# Altium footprint library PCB - CAPACITOR - ALUMINIUM - CAP TH ALUM ELEC D8.00mm S3.50mm H13.50mm.PCBLIB: 1 footprints
Each footprint in its own frame and in the unit in brackets; x right, y up, seen from the top. Pads: shape width x height; smd on the part's side, far side on the other; paste and mask are expansions set on the pad; w line width, h text height; cw(c..) or ccw(c..) is an arc to the next point about the centre after c.
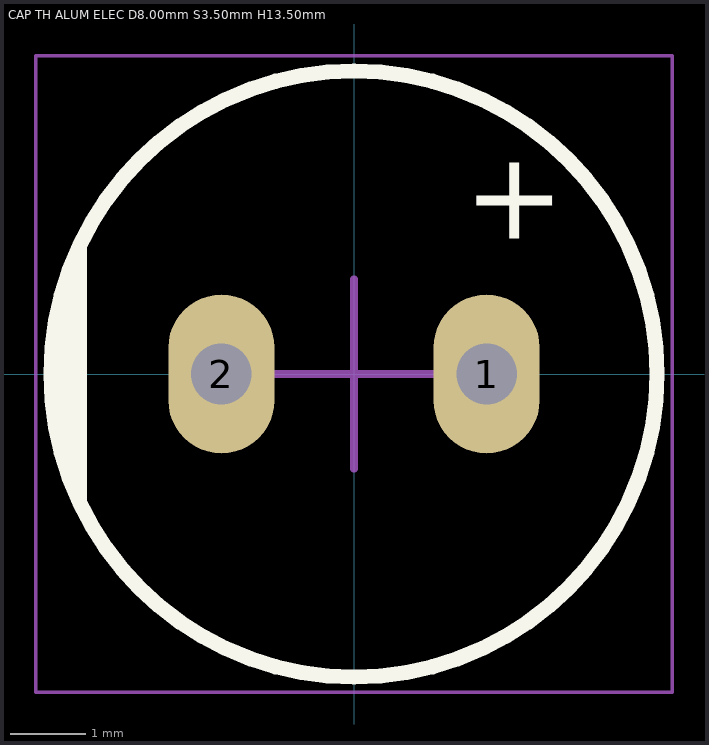
[diagram p0: the footprint, top view; thin cyan lines are the x and y axes]

## CAP TH ALUM ELEC D8.00mm S3.50mm H13.50mm [mm] "8mm Diameter 3.5mm Lead Spacing Aluminum Electrolytic Capacitors Radial, Can"
height 13.5
pads (2):
  oval 1.4x2.1 hole 0.8: 1(1.75,0) 2(-1.75,0)
Top Overlay:
  circle w0.2: c0,0 r4
  region: -3.625,-1.69 -3.718,-1.493 -3.858,-1.079 -3.952,-0.653 -4,-0.218 -4,0.218 -3.952,0.653 -3.858,1.079 -3.718,1.493 -3.625,1.69
  lines w0.2: -3.625,-1.69 cw(c0,0) -3.625,1.69 -3.625,-1.69
  text "+" at 1.45,1.4 h2
Mechanical 13:
  circle w0.1: c0,0 r4
  lines w0.1: -3.625,-1.69 -3.625,1.69
Mechanical 15:
  lines w0.05: -4.2,-4.2 -4.2,4.2 4.2,4.2 4.2,-4.2 -4.2,-4.2
  lines w0.1: -1.25,0 0,0 ; 0,-1.25 0,0 ; 0,1.25 0,0 ; 1.25,0 0,0
3D body "Cap TH D8.00mm H13.50mm L3.50mm.step": height 13.5, standoff -2.5, extent -4.008,-3.999 4,3.999